# Altium footprint library ELCAP_HOR_D14_H25_P5.PcbLib: 1 footprints
Each footprint in its own frame and in the unit in brackets; x right, y up, seen from the top. Pads: shape width x height; smd on the part's side, far side on the other; paste and mask are expansions set on the pad; w line width, h text height; cw(c..) or ccw(c..) is an arc to the next point about the centre after c.
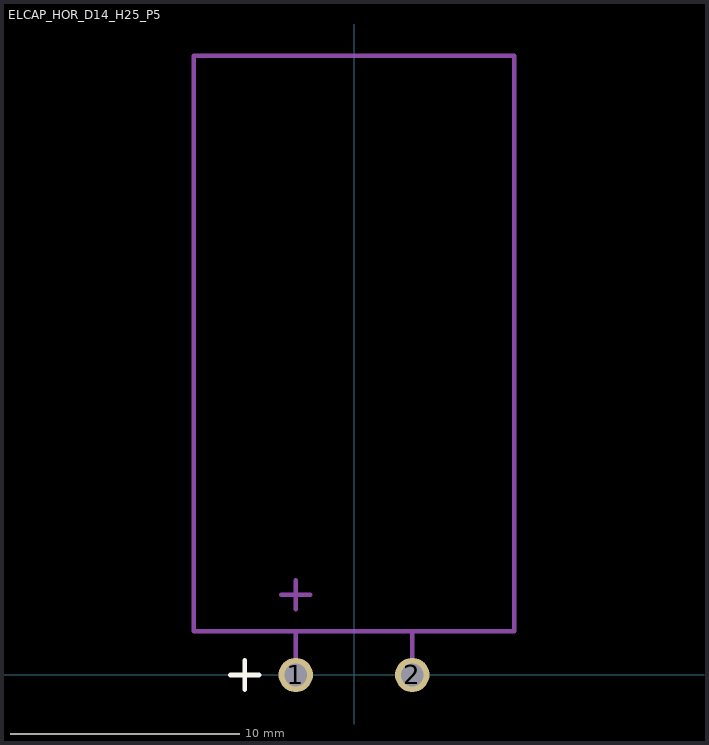
[diagram p0: the footprint, top view; thin cyan lines are the x and y axes]

## ELCAP_HOR_D14_H25_P5 [mm]
pads (2):
  round 1.5 hole 1: 1(-2.54,0) 2(2.54,0)
Top Overlay:
  lines w0.2: -5.397,0 -4.127,0 ; -4.763,-0.635 -4.763,0.635
TopAssy:
  lines w0.2: -3.175,3.492 -1.905,3.492 ; -2.54,0 -2.54,1.905 ; -2.54,2.857 -2.54,4.127 ; 2.54,0 2.54,1.905 ; -6.985,1.905 0,1.905 6.985,1.905 6.985,26.987 -6.985,26.987 -6.985,1.905
3D body: height 7, standoff 0, extent -2.84,-0.297 -2.241,0.3
3D body: height 7, standoff 0, extent 2.24,-0.297 2.839,0.3
3D body: height 7.15, standoff 6.55, extent -2.839,0 -2.241,2
3D body: height 7.15, standoff 6.55, extent 2.241,0 2.839,2
3D body: height 14, standoff 0, extent -7,2.032 7,27.032